# Altium schematic symbol library LED.SchLib: 21 symbols
Pins are listed as number, name and electrical type; pins without a type are passive.

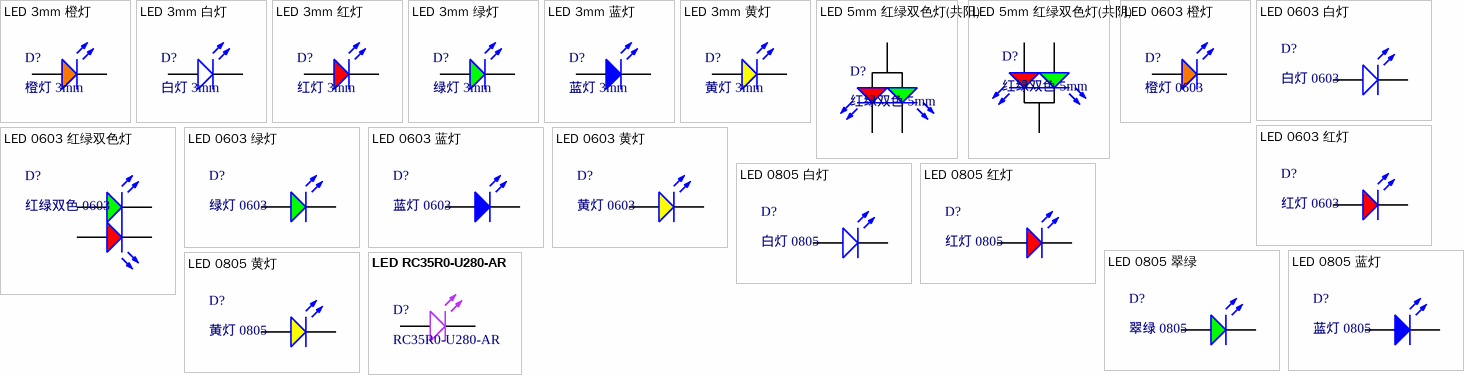
[diagram p0: symbols LED 3mm 橙灯 to LED RC35R0-U280-AR]

## LED 3mm 橙灯
designator D?, comment 橙灯 3mm
3mm直插发光二极管
footprint LED3-YEL
pins: A, K

## LED 3mm 白灯
designator D?, comment 白灯 3mm
3mm直插发光二极管
footprint LED 3mm
pins: A, K

## LED 3mm 红灯
designator D?, comment 红灯 3mm
3mm直插发光二极管
footprint LED3-RED
pins: A, K

## LED 3mm 绿灯
designator D?, comment 绿灯 3mm
3mm直插发光二极管
footprint LED3-GRE
pins: A, K

## LED 3mm 蓝灯
designator D?, comment 蓝灯 3mm
3mm直插发光二极管
footprint LED3-BLUE
pins: A, K

## LED 3mm 黄灯
designator D?, comment 黄灯 3mm
3mm直插发光二极管
footprint LED3-YEL
pins: A, K

## LED 5mm 红绿双色灯(共阳)
designator D?, comment 红绿双色 5mm
直插发光二极管; ComponentLink1Description: 供应商链接; ComponentLink1URL: http://www.szlcsc.com/product/details_73152.html; Package: 0603; Supplier: LC; SuppliersPartNumber: C72043
footprint RED&GREEN_LED
pins: 1, 2, 3

## LED 5mm 红绿双色灯(共阴)
designator D?, comment 红绿双色 5mm
直插发光二极管; Package: 0603; Supplier: LC; SuppliersPartNumber: C72043
footprint RED&GREEN_LED
pins: 1, 2, 3

## LED 0603 橙灯
designator D?, comment 橙灯 0603
贴片发光二极管
footprint LED 0603ORANGE
pins: A, K

## LED 0603 白灯
designator D?, comment 白灯 0603
贴片发光二极管; ComponentLink1Description: 供应商链接; ComponentLink1URL: http://www.szlcsc.com/product/details_2663.html; Package: 0603; Supplier: LC; SuppliersPartNumber: C2290
footprint LED 0603WHITE
pins: A, K

## LED 0603 红灯
designator D?, comment 红灯 0603
贴片发光二极管; ComponentLink1Description: 供应商链接; ComponentLink1URL: http://www.szlcsc.com/product/details_2659.html; Package: 0603; Supplier: LC; SuppliersPartNumber: C2286
footprint LED 0603RED
pins: A, K

## LED 0603 红绿双色灯
designator D?, comment 红绿双色 0603
贴片发光二极管; ComponentLink1Description: 供应商链接; ComponentLink1URL: http://www.szlcsc.com/product/details_73152.html; Package: 0603; Supplier: LC; SuppliersPartNumber: C72043
footprint LED 0603RED&GRE
pins: 1, 2, 3, 4

## LED 0603 绿灯
designator D?, comment 绿灯 0603
贴片发光二极管; ComponentLink1Description: 供应商链接; ComponentLink1URL: http://www.szlcsc.com/product/details_73152.html; Package: 0603; Supplier: LC; SuppliersPartNumber: C72043
footprint LED 0603GREEN
pins: A, K

## LED 0603 蓝灯
designator D?, comment 蓝灯 0603
贴片发光二极管; ComponentLink1Description: 供应商链接; ComponentLink1URL: http://www.szlcsc.com/product/details_73150.html; Package: 0603; Supplier: LC; SuppliersPartNumber: C72041
footprint LED 0603GREEN
pins: A, K

## LED 0603 黄灯
designator D?, comment 黄灯 0603
贴片发光二极管; ComponentLink1Description: 供应商链接; ComponentLink1URL: http://www.szlcsc.com/product/details_73147.html; Package: 0603; Supplier: LC; SuppliersPartNumber: C72038
footprint LED 0603YELLOW
pins: A, K

## LED 0805 白灯
designator D?, comment 白灯 0805
贴片发光二极管; ComponentLink1Description: 供应商链接; ComponentLink1URL: http://www.szlcsc.com/product/details_35468.html; Package: 0805; Supplier: LC; SuppliersPartNumber: C34499
footprint LED 0805WHITE (1/8W)
pins: A, K

## LED 0805 红灯
designator D?, comment 红灯 0805
贴片发光二极管; ComponentLink1Description: 供应商链接; ComponentLink1URL: http://www.szlcsc.com/product/details_2668.html; Package: 0805; Supplier: LC; SuppliersPartNumber: C2295
footprint LED 0805RED
pins: A, K

## LED 0805 翠绿
designator D?, comment 翠绿 0805
贴片发光二极管; ComponentLink1Description: 供应商链接; ComponentLink1URL: http://www.szlcsc.com/product/details_2670.html; Package: 0805; Supplier: LC; SuppliersPartNumber: C2297
footprint LED 0805GREEN
pins: A, K

## LED 0805 蓝灯
designator D?, comment 蓝灯 0805
贴片发光二极管; ComponentLink1Description: 供应商链接; ComponentLink1URL: http://www.szlcsc.com/product/details_2666.html; Package: 0805; Supplier: LC; SuppliersPartNumber: C2293
footprint LED 0805GREEN
pins: A, K

## LED 0805 黄灯
designator D?, comment 黄灯 0805
贴片发光二极管; ComponentLink1Description: 供应商链接; ComponentLink1URL: http://www.szlcsc.com/product/details_2669.html; Package: 0805; Supplier: LC; SuppliersPartNumber: C2296
footprint LED 0805YELLOW
pins: A, K

## LED RC35R0-U280-AR
designator D?, comment RC35R0-U280-AR
紫外贴片发光二极管
footprint 3535
pins: A, K